# Altium footprint library AXIAL_0.3.PcbLib: 1 footprints
Each footprint in its own frame and in the unit in brackets; x right, y up, seen from the top. Pads: shape width x height; smd on the part's side, far side on the other; paste and mask are expansions set on the pad; w line width, h text height; cw(c..) or ccw(c..) is an arc to the next point about the centre after c.
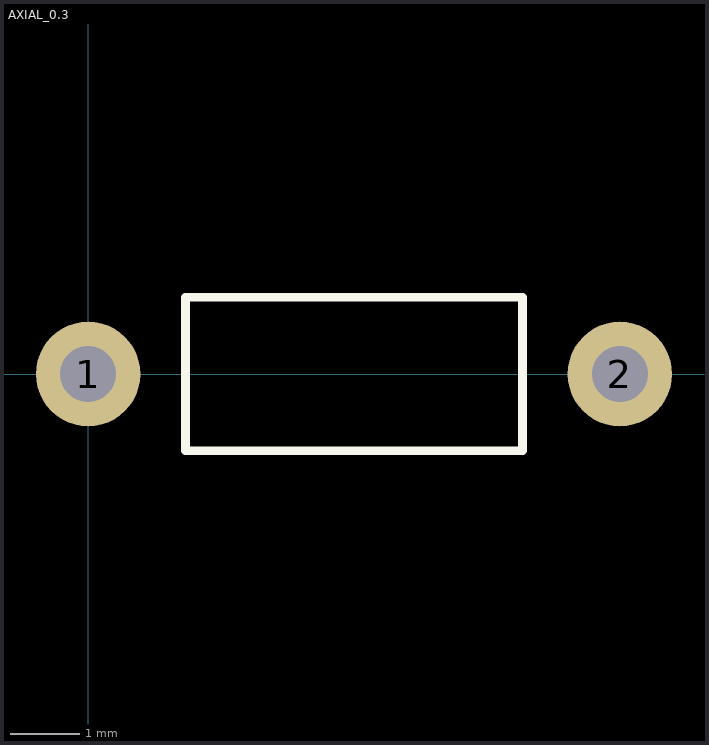
[diagram p0: the footprint, top view; thin cyan lines are the x and y axes]

## AXIAL_0.3 [mm] "Axial leaded component, 0.3\" spacing"
pads (2):
  round 1.5 hole 0.8: 1(0,0) 2(7.62,0)
Top Overlay:
  lines w0.127: 1.397,-1.1 6.223,-1.1 6.223,1.1 1.397,1.1 1.397,-1.1
3D body "Resistor_0.3in.SLDPRT": height 2.4, standoff -1.75, extent -0.274,-1.15 7.875,1.143